# Altium footprint library eecs5x.PcbLib: 161 footprints (part 4 of 11)
Each footprint in its own frame and in the unit in brackets; x right, y up, seen from the top. Pads: shape width x height; smd on the part's side, far side on the other; paste and mask are expansions set on the pad; w line width, h text height; cw(c..) or ccw(c..) is an arc to the next point about the centre after c.
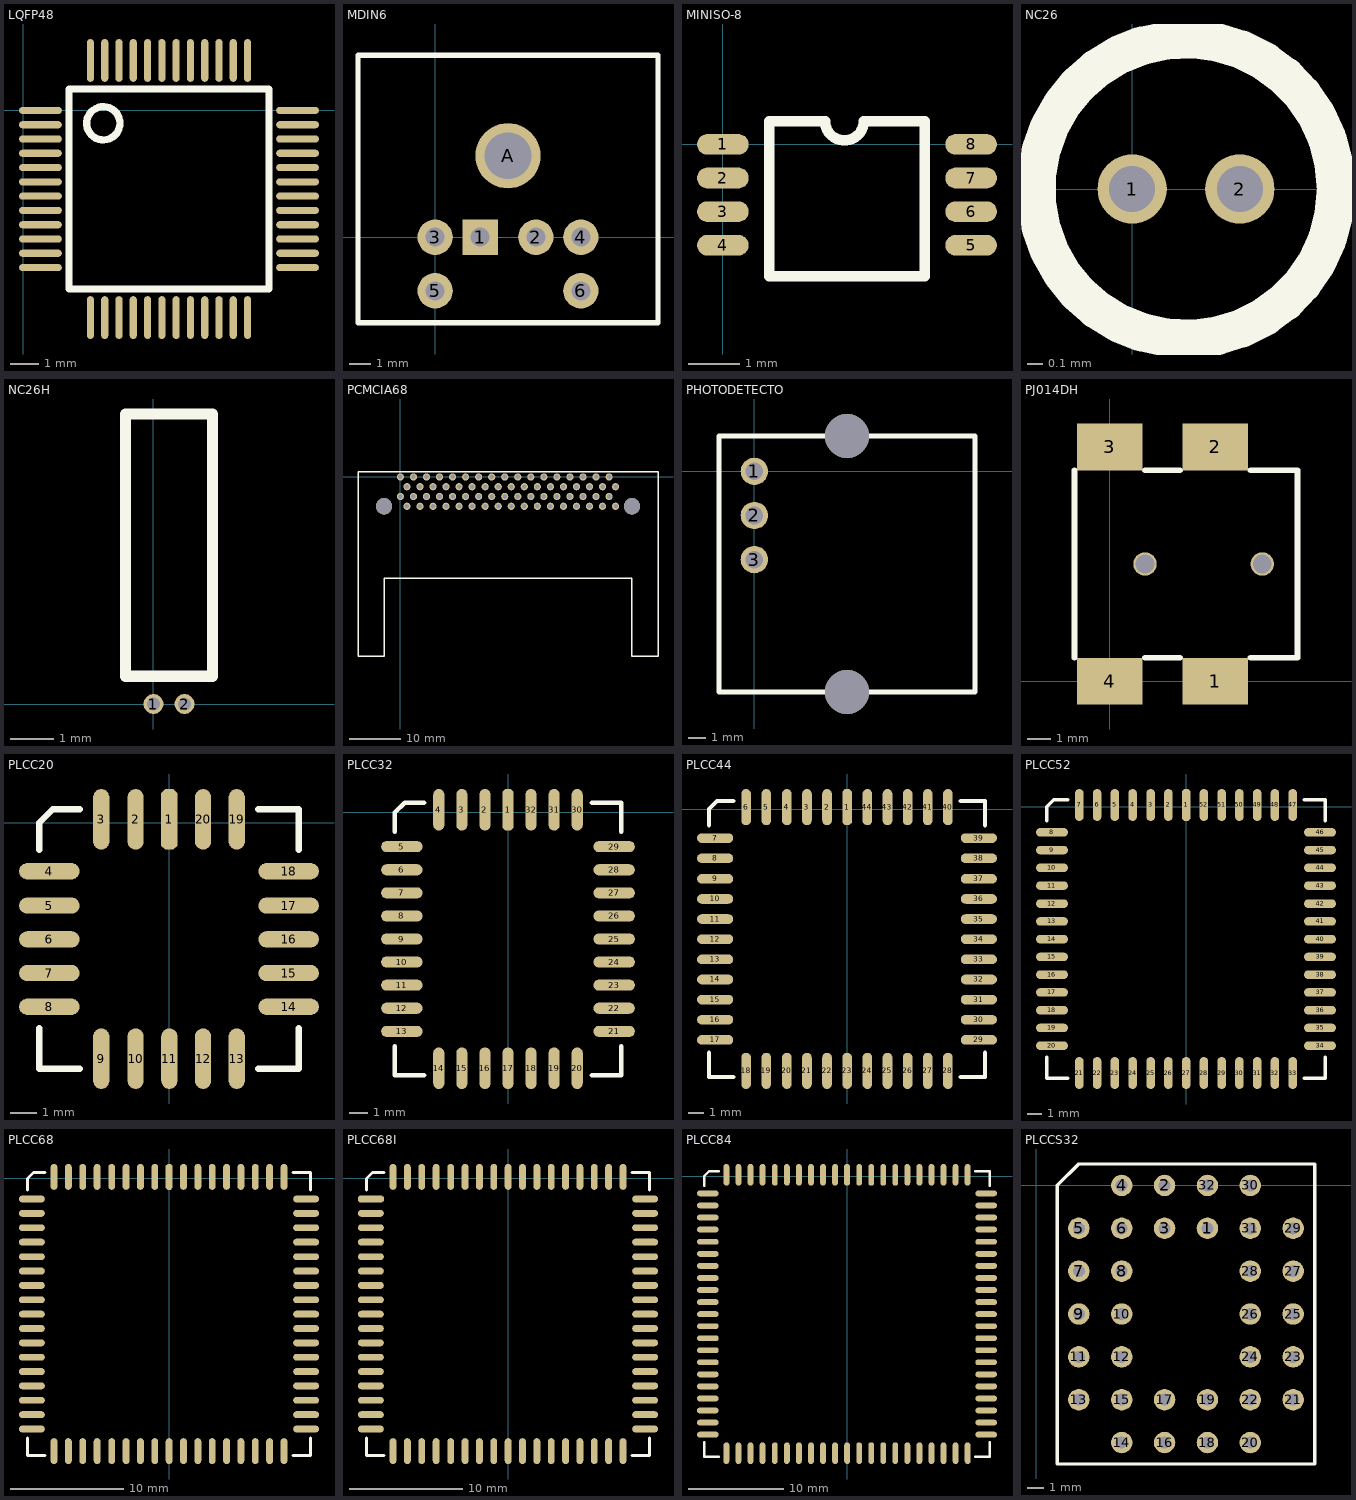
[diagram p3: the footprints below, top view; thin cyan lines are the x and y axes]

## LQFP48 [mm]
pads (48):
  oval 1.5x0.25 smd: 1(0.6,0) 2(0.6,-0.5) 3(0.6,-1) 4(0.6,-1.5) 5(0.6,-2) 6(0.6,-2.5) 7(0.6,-3) 8(0.6,-3.5) 9(0.6,-4) 10(0.6,-4.5) 11(0.6,-5) 12(0.6,-5.5) 25(9.6,-5.5) 26(9.6,-5) 27(9.6,-4.5) 28(9.6,-4) 29(9.6,-3.5) 30(9.6,-3) 31(9.6,-2.5) 32(9.6,-2) 33(9.6,-1.5) 34(9.6,-1) 35(9.6,-0.5) 36(9.6,0)
  oval 0.25x1.5 smd: 13(2.35,-7.25) 14(2.85,-7.25) 15(3.35,-7.25) 16(3.85,-7.25) 17(4.35,-7.25) 18(4.85,-7.25) 19(5.35,-7.25) 20(5.85,-7.25) 21(6.35,-7.25) 22(6.85,-7.25) 23(7.35,-7.25) 24(7.85,-7.25) 37(7.85,1.75) 38(7.35,1.75) 39(6.85,1.75) 40(6.35,1.75) 41(5.85,1.75) 42(5.35,1.75) 43(4.85,1.75) 44(4.35,1.75) 45(3.85,1.75) 46(3.35,1.75) 47(2.85,1.75) 48(2.35,1.75)
Top Overlay:
  circle w0.254: c2.8,-0.45 r0.583
  lines w0.254: 1.6,-6.25 1.6,0.75 8.6,0.75 8.6,-6.25 1.6,-6.25

## MDIN6 [mil]
pads (7):
  rect 65x65 hole 35: 1(82.68,0)
  round 65 hole 35: 2(185.04,0) 3(0,0) 4(267.72,0) 5(0,-98.43) 6(267.72,-98.43)
  round 120 hole 86: A(133.86,149.61)
Top Overlay:
  lines w10: -141.73,-157.48 -141.73,334.64 409.45,334.64 409.45,-157.48 -141.73,-157.48

## MINISO-8 [mm]
pads (8):
  oval 1x0.4 smd: 1(0,0) 2(0,-0.65) 3(0,-1.3) 4(0,-1.95) 5(4.8,-1.95) 6(4.8,-1.3) 7(4.8,-0.65) 8(4.8,0)
Top Overlay:
  lines w0.203: 0.9,-2.55 0.9,0.45 1.975,0.45 ccw(c2.35,0.45) 2.725,0.45 3.9,0.45 3.9,-2.55 0.9,-2.55

## NC26 [mil]
pads (2):
  round 18 hole 12: 1(0,0) 2(28,0)
Top Overlay:
  circle w10: c14,0 r39

## NC26H [mil]
pads (2):
  round 18 hole 12: 1(0,0) 2(28,0)
Top Overlay:
  lines w10: -25,25 53,25 53,261 -25,261 -25,25

## PCMCIA68 [mil]
pads (70):
  round 55 hole 35: 1(0,0) 2(50,-75) 3(100,0) 4(150,-75) 5(200,0) 6(250,-75) 7(300,0) 8(350,-75) 9(400,0) 10(450,-75) 11(500,0) 12(550,-75) 13(600,0) 14(650,-75) 15(700,0) 16(750,-75) 17(800,0) 18(850,-75) 19(900,0) 20(950,-75) 21(1000,0) 22(1050,-75) 23(1100,0) 24(1150,-75) 25(1200,0) 26(1250,-75) 27(1300,0) 28(1350,-75) 29(1400,0) 30(1450,-75) 31(1500,0) 32(1550,-75) 33(1600,0) 34(1650,-75) 35(0,-150) 36(50,-225) 37(100,-150) 38(150,-225) 39(200,-150) 40(250,-225) 41(300,-150) 42(350,-225) 43(400,-150) 44(450,-225) 45(500,-150) 46(550,-225) 47(600,-150) 48(650,-225) 49(700,-150) 50(750,-225) 51(800,-150) 52(850,-225) 53(900,-150) 54(950,-225) 55(1000,-150) 56(1050,-225) 57(1100,-150) 58(1150,-225) 59(1200,-150) 60(1250,-225) 61(1300,-150) 62(1350,-225) 63(1400,-150) 64(1450,-225) 65(1500,-150) 66(1550,-225) 67(1600,-150) 68(1650,-225)
  round 125 hole 125: ""(-125,-225) ""(1775,-225)
Top Overlay:
  lines w10: -325,-1375 -325,40 1975,40 1975,-1375 1775,-1375 1775,-775 -125,-775 -125,-1375 -325,-1375

## PHOTODETECTO [mil]
pads (5):
  round 62 hole 40: 1(0,0) 2(0,-100) 3(0,-200)
  round 100 hole 100: ""(210,-500) ""(210,80)
Top Overlay:
  lines w12: -80,-500 -80,80 500,80 500,-500 -80,-500

## PJ014DH [mm]
pads (6):
  rect 2.8x2 smd: 1(4.5,0) 2(4.5,10) 3(0,10) 4(0,0)
  round 1 hole 0.8: ""(1.5,5) ""(6.5,5)
Top Overlay:
  lines w0.254: -1.5,1 -1.5,9 ; 1.5,1 3,1 ; 1.5,9 3,9 ; 6,1 8,1 8,9 6,9

## PLCC20 [mil]
pads (20):
  oct 24x90 smd: 1(0,5)
  oval 24x90 smd: 2(-50,5) 3(-101,5) 9(-101,-350) 10(-50,-350) 11(0,-350) 12(50,-350) 13(100,-350) 19(100,5) 20(50,5)
  oval 90x24 smd: 4(-178,-72) 5(-178,-123) 6(-178,-173) 7(-178,-223) 8(-178,-273) 14(177,-273) 15(177,-223) 16(177,-173) 17(177,-123) 18(177,-72)
Top Overlay:
  lines w10: -193,-305 -193,-365 -133,-365 ; -193,-40 -193,0 -173,20 -133,20 ; 132,-365 192,-365 192,-305 ; 132,20 192,20 192,-40

## PLCC32 [mil]
pads (32):
  oct 24x90 smd: 1(0,5)
  oval 24x90 smd: 2(-50,5) 3(-100,5) 4(-150,5) 14(-150,-555) 15(-100,-555) 16(-50,-555) 17(0,-555) 18(50,-555) 19(100,-555) 20(150,-555) 30(150,5) 31(100,5) 32(50,5)
  oval 90x24 smd: 5(-230,-75) 6(-230,-125) 7(-230,-175) 8(-230,-225) 9(-230,-275) 10(-230,-325) 11(-230,-375) 12(-230,-425) 13(-230,-475) 21(230,-475) 22(230,-425) 23(230,-375) 24(230,-325) 25(230,-275) 26(230,-225) 27(230,-175) 28(230,-125) 29(230,-75)
Top Overlay:
  lines w10: -245,-507 -245,-570 -182,-570 ; -245,-43 -245,-1 -224,20 -182,20 ; 182,-570 245,-570 245,-507 ; 182,20 245,20 245,-43

## PLCC44 [mil]
pads (44):
  oct 24x90 smd: 1(0,5)
  oval 24x90 smd: 2(-50,5) 3(-100,5) 4(-150,5) 5(-201,5) 6(-251,5) 18(-251,-650) 19(-201,-650) 20(-150,-650) 21(-100,-650) 22(-50,-650) 23(0,-650) 24(50,-650) 25(100,-650) 26(150,-650) 27(200,-650) 28(250,-650) 40(250,5) 41(200,5) 42(150,5) 43(100,5) 44(50,5)
  oval 90x24 smd: 7(-328,-72) 8(-328,-122) 9(-328,-173) 10(-328,-223) 11(-328,-273) 12(-328,-323) 13(-328,-373) 14(-328,-423) 15(-328,-473) 16(-328,-523) 17(-328,-573) 29(327,-573) 30(327,-523) 31(327,-473) 32(327,-423) 33(327,-373) 34(327,-323) 35(327,-273) 36(327,-223) 37(327,-173) 38(327,-122) 39(327,-72)
Top Overlay:
  lines w10: -343,-605 -343,-665 -283,-665 ; -343,-40 -343,0 -323,20 -283,20 ; 282,-665 342,-665 342,-605 ; 282,20 342,20 342,-40

## PLCC52 [mil]
pads (52):
  oct 24x90 smd: 1(0,5)
  oval 24x90 smd: 2(-50,5) 3(-100,5) 4(-151,5) 5(-201,5) 6(-251,5) 7(-301,5) 21(-301,-750) 22(-251,-750) 23(-201,-750) 24(-151,-750) 25(-100,-750) 26(-50,-750) 27(0,-750) 28(50,-750) 29(100,-750) 30(150,-750) 31(200,-750) 32(250,-750) 33(300,-750) 47(300,5) 48(250,5) 49(200,5) 50(150,5) 51(100,5) 52(50,5)
  oval 90x24 smd: 8(-378,-72) 9(-378,-122) 10(-378,-172) 11(-378,-222) 12(-378,-273) 13(-378,-323) 14(-378,-373) 15(-378,-423) 16(-378,-473) 17(-378,-523) 18(-378,-573) 19(-378,-623) 20(-378,-673) 34(377,-673) 35(377,-623) 36(377,-573) 37(377,-523) 38(377,-473) 39(377,-423) 40(377,-373) 41(377,-323) 42(377,-273) 43(377,-222) 44(377,-172) 45(377,-122) 46(377,-72)
Top Overlay:
  lines w10: -393,-705 -393,-765 -333,-765 ; -393,-40 -393,0 -373,20 -333,20 ; 332,-765 392,-765 392,-705 ; 332,20 392,20 392,-40

## PLCC68 [mil]
pads (68):
  oct 24x90 smd: 1(0,5)
  oval 24x90 smd: 2(-50,5) 3(-100,5) 4(-150,5) 5(-200,5) 6(-251,5) 7(-301,5) 8(-351,5) 9(-401,5) 27(-401,-950) 28(-351,-950) 29(-301,-950) 30(-251,-950) 31(-200,-950) 32(-150,-950) 33(-100,-950) 34(-50,-950) 35(0,-950) 36(50,-950) 37(100,-950) 38(150,-950) 39(200,-950) 40(250,-950) 41(300,-950) 42(350,-950) 43(400,-950) 61(400,5) 62(350,5) 63(300,5) 64(250,5) 65(200,5) 66(150,5) 67(100,5) 68(50,5)
  oval 90x24 smd: 10(-478,-72) 11(-478,-122) 12(-478,-172) 13(-478,-222) 14(-478,-273) 15(-478,-323) 16(-478,-373) 17(-478,-423) 18(-478,-473) 19(-478,-523) 20(-478,-573) 21(-478,-623) 22(-478,-673) 23(-478,-723) 24(-478,-773) 25(-478,-823) 26(-478,-873) 44(477,-873) 45(477,-823) 46(477,-773) 47(477,-723) 48(477,-673) 49(477,-623) 50(477,-573) 51(477,-523) 52(477,-473) 53(477,-423) 54(477,-373) 55(477,-323) 56(477,-273) 57(477,-222) 58(477,-172) 59(477,-122) 60(477,-72)
Top Overlay:
  lines w10: -493,-905 -493,-965 -433,-965 ; -493,-40 -493,0 -473,20 -433,20 ; 432,-965 492,-965 492,-905 ; 432,20 492,20 492,-40

## PLCC68I [mil]
pads (68):
  oct 90x24 smd: 1(-478,-72)
  oval 90x24 smd: 2(-478,-122) 3(-478,-172) 4(-478,-222) 5(-478,-273) 6(-478,-323) 7(-478,-373) 8(-478,-423) 9(-478,-473) 10(-478,-523) 11(-478,-573) 12(-478,-623) 13(-478,-673) 14(-478,-723) 15(-478,-773) 16(-478,-823) 17(-478,-873) 35(477,-873) 36(477,-823) 37(477,-773) 38(477,-723) 39(477,-673) 40(477,-623) 41(477,-573) 42(477,-523) 43(477,-473) 44(477,-423) 45(477,-373) 46(477,-323) 47(477,-273) 48(477,-222) 49(477,-172) 50(477,-122) 51(477,-72)
  oval 24x90 smd: 18(-401,-950) 19(-351,-950) 20(-301,-950) 21(-251,-950) 22(-200,-950) 23(-150,-950) 24(-100,-950) 25(-50,-950) 26(0,-950) 27(50,-950) 28(100,-950) 29(150,-950) 30(200,-950) 31(250,-950) 32(300,-950) 33(350,-950) 34(400,-950) 52(400,5) 53(350,5) 54(300,5) 55(250,5) 56(200,5) 57(150,5) 58(100,5) 59(50,5) 60(0,5) 61(-50,5) 62(-100,5) 63(-150,5) 64(-200,5) 65(-251,5) 66(-301,5) 67(-351,5) 68(-401,5)
Top Overlay:
  lines w10: -493,-905 -493,-965 -433,-965 ; -493,-40 -493,0 -473,20 -433,20 ; 432,-965 492,-965 492,-905 ; 432,20 492,20 492,-40

## PLCC84 [mil]
pads (84):
  oct 24x90 smd: 1(0,5)
  oval 24x90 smd: 2(-50,5) 3(-100,5) 4(-150,5) 5(-200,5) 6(-250,5) 7(-300,5) 8(-351,5) 9(-401,5) 10(-451,5) 11(-501,5) 33(-501,-1150) 34(-451,-1150) 35(-401,-1150) 36(-351,-1150) 37(-300,-1150) 38(-250,-1150) 39(-200,-1150) 40(-150,-1150) 41(-100,-1150) 42(-50,-1150) 43(0,-1150) 44(50,-1150) 45(100,-1150) 46(150,-1150) 47(200,-1150) 48(250,-1150) 49(300,-1150) 50(350,-1150) 51(400,-1150) 52(450,-1150) 53(500,-1150) 75(500,5) 76(450,5) 77(400,5) 78(350,5) 79(300,5) 80(250,5) 81(200,5) 82(150,5) 83(100,5) 84(50,5)
  oval 90x24 smd: 12(-578,-72) 13(-578,-122) 14(-578,-172) 15(-578,-222) 16(-578,-273) 17(-578,-323) 18(-578,-373) 19(-578,-423) 20(-578,-473) 21(-578,-523) 22(-578,-573) 23(-578,-623) 24(-578,-673) 25(-578,-723) 26(-578,-773) 27(-578,-823) 28(-578,-873) 29(-578,-923) 30(-578,-973) 31(-578,-1023) 32(-578,-1073) 54(577,-1073) 55(577,-1023) 56(577,-973) 57(577,-923) 58(577,-873) 59(577,-823) 60(577,-773) 61(577,-723) 62(577,-673) 63(577,-623) 64(577,-573) 65(577,-523) 66(577,-473) 67(577,-423) 68(577,-373) 69(577,-323) 70(577,-273) 71(577,-222) 72(577,-172) 73(577,-122) 74(577,-72)
Top Overlay:
  lines w10: -593,-1105 -593,-1165 -533,-1165 ; -593,-40 -593,0 -573,20 -533,20 ; 532,-1165 592,-1165 592,-1105 ; 532,20 592,20 592,-40

## PLCCS32 [mil]
pads (32):
  round 50 hole 28: 1(400,-100) 2(300,0) 3(300,-100) 4(200,0) 5(100,-100) 6(200,-100) 7(100,-200) 8(200,-200) 9(100,-300) 10(200,-300) 11(100,-400) 12(200,-400) 13(100,-500) 14(200,-600) 15(200,-500) 16(300,-600) 17(300,-500) 18(400,-600) 19(400,-500) 20(500,-600) 21(600,-500) 22(500,-500) 23(600,-400) 24(500,-400) 25(600,-300) 26(500,-300) 27(600,-200) 28(500,-200) 29(600,-100) 30(500,0) 31(500,-100) 32(400,0)
Top Overlay:
  lines w8: 50,-650 50,0 100,50 650,50 650,-650 50,-650